# EAGLE library part ADP8866 (library ERIC)
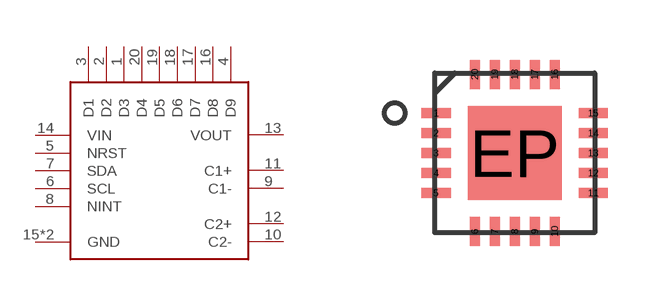
[diagram p37: symbol with the pads of QFN_20_4X4; footprint QFN_20_4X4]

Designator prefix -

## ADP8866  [QFN_20_4X4]
1  D3  in
2  D2  in
3  D1  in
4  D9  in
5  NRST  in
6  SCL  in
7  SDA  in
8  NINT  in
9  C1-  in
10  C2-  in
11  C1+  in
12  C2+  in
13  VOUT  sup
14  VIN  pwr
15  GND  pwr
16  D8  in
17  D7  in
18  D6  in
19  D5  in
20  D4  in
EP  GND  pwr

## Footprint QFN_20_4X4 (pad centres in mm)
20-Lead Plastic Quad Flat, No Lead Package (ML) - 4x4 mm Body [QNF] With 0.40 mm Contact Length page 245
smd 0.73 x 0.25: 1 -1.965,1; 2 -1.965,0.5; 3 -1.965,0; 4 -1.965,-0.5; 5 -1.965,-1; 11 1.965,-1; 12 1.965,-0.5; 13 1.965,0; 14 1.965,0.5; 15 1.965,1
smd 0.25 x 0.73: 6 -1,-1.965; 7 -0.5,-1.965; 8 0,-1.965; 9 0.5,-1.965; 10 1,-1.965; 16 1,1.965; 17 0.5,1.965; 18 0,1.965; 19 -0.5,1.965; 20 -1,1.965
smd 2.35 x 2.35: EP 0,0